# EAGLE library part DF12_M (library KW2)
Hirose DF12 Male Connector
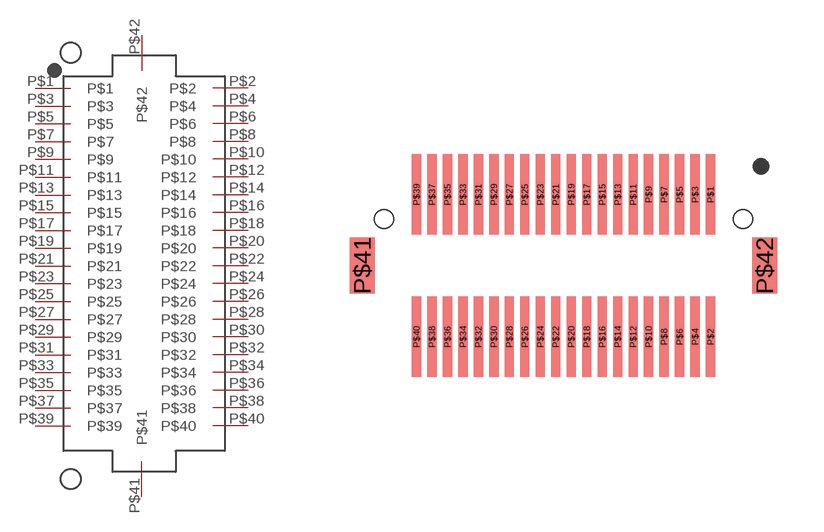
[diagram p3: symbol with the pads of DF12_M; footprint DF12_M]

Designator prefix -

## DF12_M  [DF12_M]
P$1  P$1
P$2  P$2
P$3  P$3
P$4  P$4
P$5  P$5
P$6  P$6
P$7  P$7
P$8  P$8
P$9  P$9
P$10  P$10
P$11  P$11
P$12  P$12
P$13  P$13
P$14  P$14
P$15  P$15
P$16  P$16
P$17  P$17
P$18  P$18
P$19  P$19
P$20  P$20
P$21  P$21
P$22  P$22
P$23  P$23
P$24  P$24
P$25  P$25
P$26  P$26
P$27  P$27
P$28  P$28
P$29  P$29
P$30  P$30
P$31  P$31
P$32  P$32
P$33  P$33
P$34  P$34
P$35  P$35
P$36  P$36
P$37  P$37
P$38  P$38
P$39  P$39
P$40  P$40
P$41  P$41
P$42  P$42

## Footprint DF12_M (pad centres in mm)
smd 0.3 x 2.6: P$1 4.75,2.3; P$2 4.75,-2.3; P$3 4.25,2.3; P$4 4.25,-2.3; P$5 3.75,2.3; P$6 3.75,-2.3; P$7 3.25,2.3; P$8 3.25,-2.3; P$9 2.75,2.3; P$10 2.75,-2.3; P$11 2.25,2.3; P$12 2.25,-2.3; P$13 1.75,2.3; P$14 1.75,-2.3; P$15 1.25,2.3; P$16 1.25,-2.3; P$17 0.75,2.3; P$18 0.75,-2.3; P$19 0.25,2.3; P$20 0.25,-2.3; P$21 -0.25,2.3; P$22 -0.25,-2.3; P$23 -0.75,2.3; P$24 -0.75,-2.3; P$25 -1.25,2.3; P$26 -1.25,-2.3; P$27 -1.75,2.3; P$28 -1.75,-2.3; P$29 -2.25,2.3; P$30 -2.25,-2.3; P$31 -2.75,2.3; P$32 -2.75,-2.3; P$33 -3.25,2.3; P$34 -3.25,-2.3; P$35 -3.75,2.3; P$36 -3.75,-2.3; P$37 -4.25,2.3; P$38 -4.25,-2.3; P$39 -4.75,2.3; P$40 -4.75,-2.3
smd 0.8 x 1.8: P$41 -6.5,0; P$42 6.5,0
hole 0.6 at -5.8,1.5
hole 0.6 at 5.8,1.5